# Altium footprint library 4AD_K7.PcbLib: 51 footprints (part 3 of 4)
Each footprint in its own frame and in the unit in brackets; x right, y up, seen from the top. Pads: shape width x height; smd on the part's side, far side on the other; paste and mask are expansions set on the pad; w line width, h text height; cw(c..) or ccw(c..) is an arc to the next point about the centre after c.
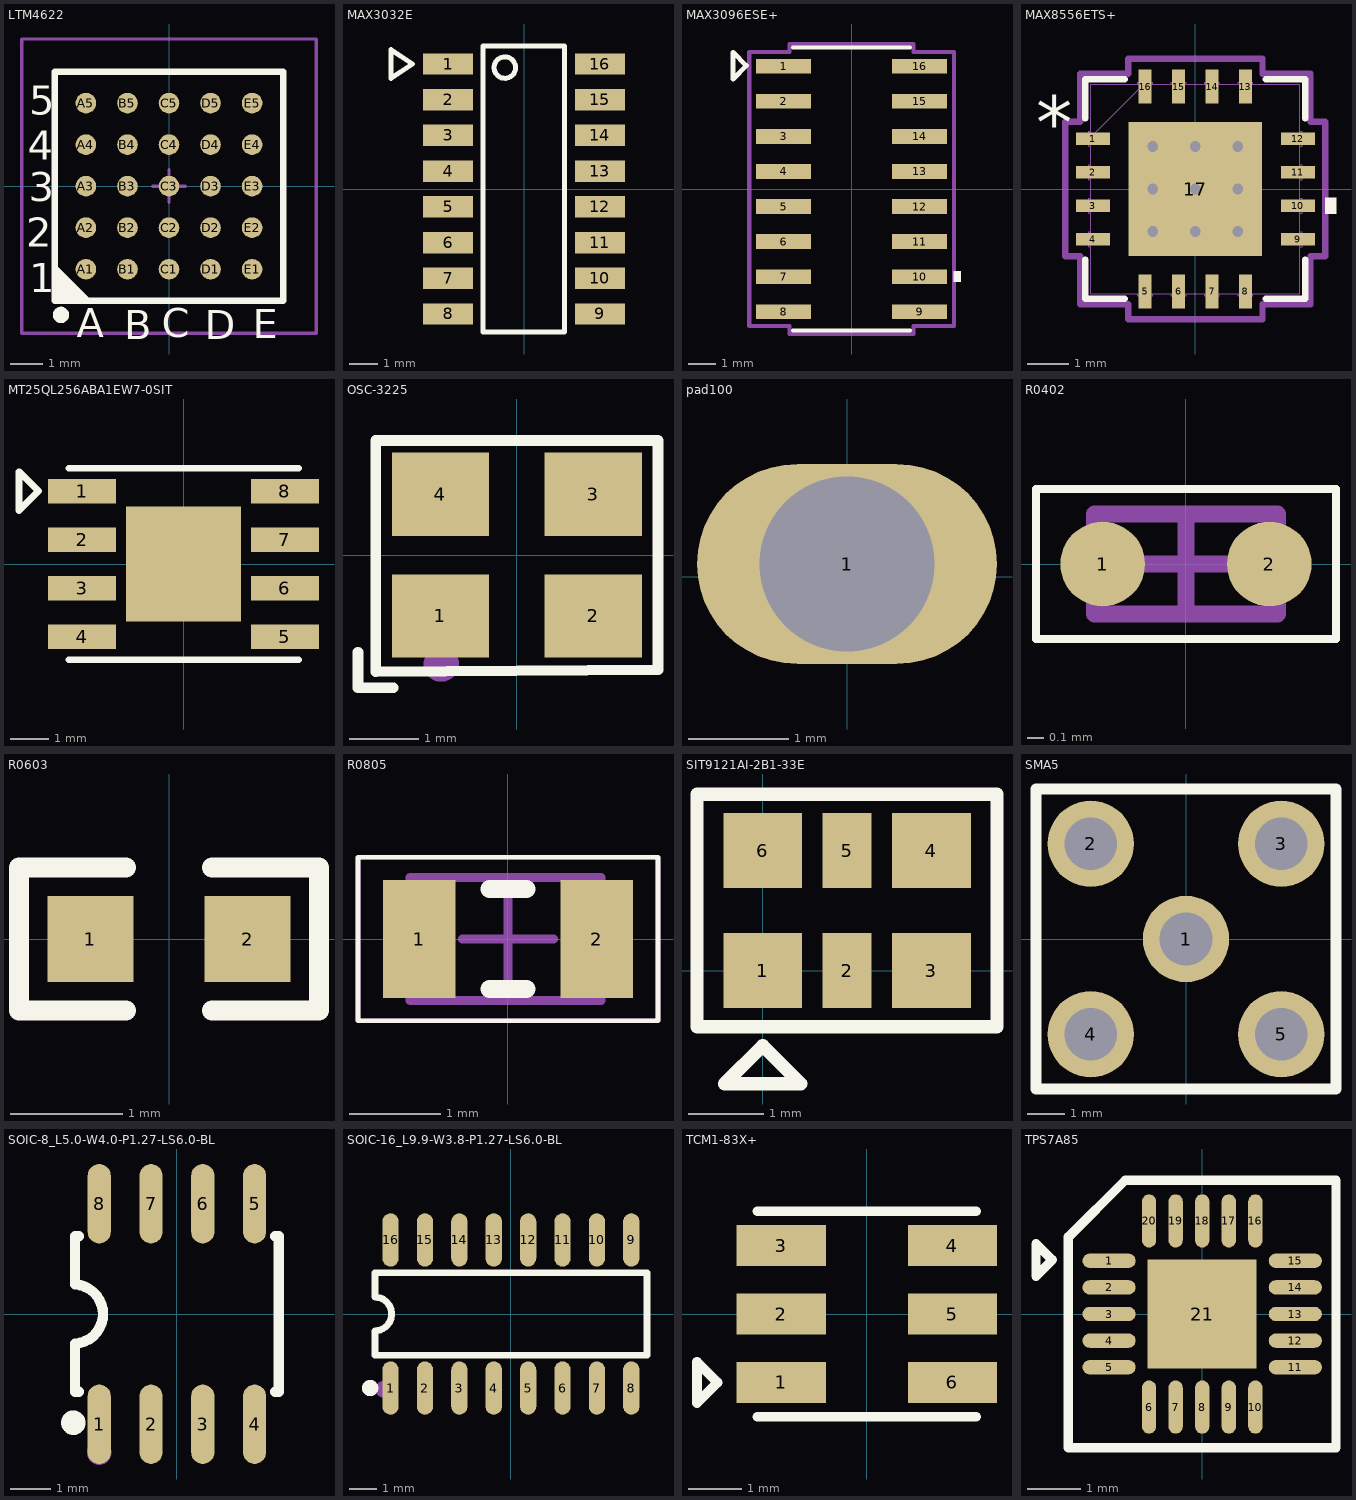
[diagram p2: the footprints below, top view; thin cyan lines are the x and y axes]

## LTM4622 [mm]
pads (25):
  round 0.63 smd: A1(-2.54,-2.54) A2(-2.54,-1.27) A3(-2.54,0) A4(-2.54,1.27) A5(-2.54,2.54) B1(-1.27,-2.54) B2(-1.27,-1.27) B3(-1.27,0) B4(-1.27,1.27) B5(-1.27,2.54) C1(0,-2.54) C2(0,-1.27) C3(0,0) C4(0,1.27) C5(0,2.54) D1(1.27,-2.54) D2(1.27,-1.27) D3(1.27,0) D4(1.27,1.27) D5(1.27,2.54) E1(2.54,-2.54) E2(2.54,-1.27) E3(2.54,0) E4(2.54,1.27) E5(2.54,2.54)
Top Overlay:
  circle w0.25: c-3.302,-3.937 r0.125
  region: -3.5,-2.5 -2.5,-3.5 -3.5,-3.5
  lines w0.2: -3.5,-2.5 -2.5,-3.5 ; -3.5,-3.5 -3.5,3.5 3.5,3.5 3.5,-3.5 -3.5,-3.5
  text "A" at -2.819,-4.623 h0.89
  text "B" at -1.372,-4.674 h0.89
  text "C" at -0.229,-4.623 h0.89
  text "D" at 1.092,-4.674 h0.89
  text "E" at 2.565,-4.648 h0.89
  text "1" at -4.267,-3.251 h0.89
  text "2" at -4.369,-1.854 h0.89
  text "3" at -4.293,-0.457 h0.89
  text "4" at -4.318,0.813 h0.89
  text "5" at -4.267,2.184 h0.89
Mechanical 13:
  lines w0.1: -3.5,-3.5 -3.5,3.5 3.5,3.5 3.5,-3.5 -3.5,-3.5
Mechanical 15:
  lines w0.1: -0.5,0 0.5,0 ; 0,-0.5 0,0.5 ; -4.5,-4.5 -4.5,4.5 4.5,4.5 4.5,-4.5 -4.5,-4.5
3D body: height 1.55, standoff 0, extent -3.5,-3.5 3.5,3.5

## MAX3032E [mil]
pads (16):
  rect 70x30 smd: 1(-106.3,175) 2(-106.3,125) 3(-106.3,75) 4(-106.3,25) 5(-106.3,-25) 6(-106.3,-75) 7(-106.3,-125) 8(-106.3,-175) 9(106.3,-175) 10(106.3,-125) 11(106.3,-75) 12(106.3,-25) 13(106.3,25) 14(106.3,75) 15(106.3,125) 16(106.3,175)
Top Overlay:
  circle w7: c-26.97,170 r15
  lines w7: -186.3,155 -186.3,195 -156.3,175 -186.3,155 ; -57.3,-200 -57.3,200 56.55,200 56.55,-200 -57.3,-200

## MAX3096ESE+ [mil]
pads (16):
  rect 78x21 smd: 1(-97,175) 2(-97,125) 3(-97,75) 4(-97,25) 5(-97,-25) 6(-97,-75) 7(-97,-125) 8(-97,-175) 9(97,-175) 10(97,-125) 11(97,-75) 12(97,-25) 13(97,25) 14(97,75) 15(97,125) 16(97,175)
Top Overlay:
  region: 146,-117.5 156,-117.5 156,-132.5 146,-132.5
  lines w6: -83.5,-202 83.5,-202 ; -83.5,202 83.5,202
  lines w7: -169,157 -169,195 -150,176 -169,157
Mechanical 15:
  lines w6: -146,-195.5 -146,195.5 -88.5,195.5 -88.5,207 88.5,207 88.5,195.5 146,195.5 146,-195.5 88.5,-195.5 88.5,-207 -88.5,-207 -88.5,-195.5 -146,-195.5

## MAX8556ETS+ [mil]
pads (17):
  rect 32x12 smd paste+0 mask+0: 1(-96.5,47.24) 2(-96.5,15.75) 3(-96.5,-15.75) 4(-96.5,-47.24) 9(96.5,-47.24) 10(96.5,-15.75) 11(96.5,15.75) 12(96.5,47.24)
  rect 12x32 smd paste+0 mask+0: 5(-47.24,-96.5) 6(-15.75,-96.5) 7(15.75,-96.5) 8(47.24,-96.5) 13(47.24,96.5) 14(15.75,96.5) 15(-15.75,96.5) 16(-47.24,96.5)
  rect 126x126 smd paste-62.5 mask+0: 17(0,0)
via 40,0 diameter 18 hole 10
via 40,-40 diameter 18 hole 10
via -40,-40 diameter 18 hole 10
via -40,40 diameter 18 hole 10
via 40,40 diameter 18 hole 10
via -40,0 diameter 18 hole 10
via 0,-40 diameter 18 hole 10
via 0,40 diameter 18 hole 10
via 0,0 diameter 18 hole 10
Top Overlay:
  region: 122.5,-8.25 132.5,-8.25 132.5,-23.25 122.5,-23.25
  lines w6: -103.5,-66.34 -103.5,-103.5 -66.34,-103.5 ; -103.5,66.34 -103.5,103.5 -66.34,103.5 ; 66.34,-103.5 103.5,-103.5 103.5,-66.34 ; 66.34,103.5 103.5,103.5 103.5,66.34
  text "*" at -150,37.99 h50
Top Paste:
  region: -3.94,59.06 -59.06,59.06 -59.06,3.94 -3.94,3.94
  region: -3.94,-3.94 -59.06,-3.94 -59.06,-59.06 -3.94,-59.06
  region: 59.06,59.06 3.94,59.06 3.94,3.94 59.06,3.94
  region: 59.06,-3.94 3.94,-3.94 3.94,-59.06 59.06,-59.06
Mechanical 13:
  lines w1: -98.5,48.5 -48.5,98.5 ; -100.5,-54.24 -100.5,-40.24 -98.5,-40.24 -98.5,-54.24 -100.5,-54.24 ; -100.5,-22.75 -100.5,-8.75 -98.5,-8.75 -98.5,-22.75 -100.5,-22.75 ; -100.5,8.75 -100.5,22.75 -98.5,22.75 -98.5,8.75 -100.5,8.75 ; -100.5,40.24 -100.5,54.24 -98.5,54.24 -98.5,40.24 -100.5,40.24 ; -98.5,-98.5 98.5,-98.5 98.5,98.5 -98.5,98.5 -98.5,-98.5 ; -54.24,-100.5 -54.24,-98.5 -40.24,-98.5 -40.24,-100.5 -54.24,-100.5 ; -54.24,98.5 -40.24,98.5 -40.24,100.5 -54.24,100.5 -54.24,98.5 ; -22.75,-100.5 -22.75,-98.5 -8.75,-98.5 -8.75,-100.5 -22.75,-100.5 ; -22.75,98.5 -8.75,98.5 -8.75,100.5 -22.75,100.5 -22.75,98.5 ; 8.75,-100.5 8.75,-98.5 22.75,-98.5 22.75,-100.5 8.75,-100.5 ; 8.75,98.5 22.75,98.5 22.75,100.5 8.75,100.5 8.75,98.5 ; 40.24,-100.5 40.24,-98.5 54.24,-98.5 54.24,-100.5 40.24,-100.5 ; 40.24,98.5 54.24,98.5 54.24,100.5 40.24,100.5 40.24,98.5 ; 98.5,-54.24 98.5,-40.24 100.5,-40.24 100.5,-54.24 98.5,-54.24 ; 98.5,-22.75 98.5,-8.75 100.5,-8.75 100.5,-22.75 98.5,-22.75 ; 98.5,8.75 98.5,22.75 100.5,22.75 100.5,8.75 98.5,8.75 ; 98.5,40.24 98.5,54.24 100.5,54.24 100.5,40.24 98.5,40.24
  text "*" at -93,37.99 h50
Mechanical 15:
  lines w6: -122.5,-63.24 -108.5,-63.24 -108.5,-108.5 -63.24,-108.5 -63.24,-122.5 63.24,-122.5 63.24,-108.5 108.5,-108.5 108.5,-63.24 122.5,-63.24 122.5,63.24 108.5,63.24 108.5,108.5 63.24,108.5 63.24,122.5 -63.24,122.5 -63.24,108.5 -108.5,108.5 -108.5,63.24 -122.5,63.24 -122.5,-63.24
3D body "21-0140_T1655+3_MXM.step": height 32.09, standoff 0, extent -100.51,-100.51 100.51,100.51

## MT25QL256ABA1EW7-0SIT [mm]
pads (9):
  rect 1.778x0.635 smd: 1(-2.65,1.905) 2(-2.65,0.635) 3(-2.65,-0.635) 4(-2.65,-1.905) 5(2.65,-1.905) 6(2.65,-0.635) 7(2.65,0.635) 8(2.65,1.905)
  rect 3x3 smd: ""(0,0)
Top Overlay:
  lines w0.178: -3,-2.5 3,-2.5 ; -3,2.5 3,2.5 ; -4.301,1.397 -4.301,2.413 -3.793,1.905 -4.301,1.397

## OSC-3225 [mm]
pads (4):
  rect 1.4x1.2 smd: 1(-1.1,-0.875) 2(1.1,-0.875) 3(1.1,0.875) 4(-1.1,0.875)
Top Overlay:
  lines w0.152: -2.286,-1.397 -2.286,-1.905 -1.778,-1.905 ; -2.029,-1.679 2.032,-1.651 2.032,0 2.032,1.651 -2.029,1.651 -2.029,-1.679
Mechanical 15:
  circle w0.254: c-1.088,-1.567 r0.127
  region: -1.738,-0.536 -1.702,-0.536 -1.702,-0.608 -1.738,-0.608
  region: -1.702,-0.536 -1.666,-0.536 -1.666,-0.608 -1.702,-0.608
  region: -1.666,-0.5 -1.63,-0.5 -1.63,-0.608 -1.666,-0.608
  region: -1.63,-0.464 -1.594,-0.464 -1.594,-0.572 -1.63,-0.572
  region: -1.594,-0.464 -1.558,-0.464 -1.558,-1.004 -1.594,-1.004
  region: -1.558,-0.428 -1.522,-0.428 -1.522,-1.004 -1.558,-1.004
  region: -1.522,-0.428 -1.486,-0.428 -1.486,-1.004 -1.522,-1.004
  region: -1.486,-0.428 -1.45,-0.428 -1.45,-1.004 -1.486,-1.004

## pad100 [mm]
pads (1):
  oval 3x2 hole 1.75: 1(0,0.127)

## R0402 [mil]
height 11.81
pads (2):
  round 20 smd: 1(-19.68,0) 2(19.68,0)
Top Overlay:
  lines w1.97: -35.43,-17.72 -35.43,17.72 35.43,17.72 35.43,-17.72 -35.43,-17.72
Mechanical 13:
  lines w3.94: -21.65,-11.81 21.65,-11.81 21.65,11.81 -21.65,11.81 -21.65,-11.81
Mechanical 15:
  lines w1.97: -35.43,-17.72 -35.43,17.72 35.43,17.72 35.43,-17.72 -35.43,-17.72
  lines w3.94: -9.84,0 9.84,0 ; 0,-9.84 0,9.84
3D body "R0402.STEP": height 13.78, standoff 0, extent -19.68,-9.84 19.69,9.85

## R0603 [mil]
pads (2):
  rect 30x30 smd: 1(-27.5,0) 2(27.5,0)
Top Overlay:
  lines w7: -15,-25 -52.5,-25 -52.5,25 -15,25 ; 15,-25 52.5,-25 52.5,25 15,25

## R0805 [mm]
height 0.5
pads (2):
  rect 0.8x1.3 smd: 1(-0.975,0) 2(0.975,0)
Top Overlay:
  lines w0.05: -1.65,-0.9 1.65,-0.9 1.65,0.9 -1.65,0.9 -1.65,-0.9
  lines w0.2: -0.2,-0.55 0.2,-0.55 ; -0.2,0.55 0.2,0.55
Mechanical 13:
  lines w0.1: -1.075,-0.675 -1.075,0.675 1.025,0.675 1.025,-0.675 -1.075,-0.675
Mechanical 15:
  lines w0.05: -1.65,-0.9 1.65,-0.9 1.65,0.9 -1.65,0.9 -1.65,-0.9
  lines w0.1: -0.5,0 0.5,0 ; 0,-0.5 0,0.5
3D body "R0805.STEP": height 0.55, standoff 0, extent -1.025,-0.63 0.975,0.63

## SIT9121AI-2B1-33E [mm]
pads (6):
  rect 1.05x1 smd: 1(0,0) 3(2.25,0) 4(2.25,1.6) 6(0,1.6)
  rect 0.65x1 smd: 2(1.125,0) 5(1.125,1.6)
Top Overlay:
  lines w0.178: -0.875,-0.75 -0.875,2.35 3.125,2.35 3.125,-0.75 -0.875,-0.75 ; -0.508,-1.508 0,-1 0.508,-1.508 -0.508,-1.508

## SMA5 [mm]
pads (5):
  round 2.3 hole 1.4: 1(0,0) 2(-2.54,2.54) 3(2.54,2.54) 4(-2.54,-2.54) 5(2.54,-2.54)
Top Overlay:
  lines w0.305: -4,-4 4,-4 4,4 -4,4 -4,-4

## SOIC-8_L5.0-W4.0-P1.27-LS6.0-BL [mil]
pads (8):
  oval 22.38x76.78 smd: 1(-75,-106.5) 2(-25,-106.5) 3(25,-106.5) 4(75,-106.5) 5(75,106.5) 6(25,106.5) 7(-25,106.5) 8(-75,106.5)
Top Overlay:
  circle w11.81: c-100,-105 r5.91
  lines w10: -98.43,-28.61 ccw(c-99.99,0) -98.23,28.59 ; -98.42,-28.61 -98.42,-59.05 -98.42,-75 -94.83,-75 ; -98.42,28.59 -98.42,59.05 -98.42,75 -94.83,75 ; 94.83,-75 98.42,-75 98.42,-59.05 98.42,59.05 98.42,75 94.83,75
Mechanical 15:
  circle w11.81: c-75,-133.86 r5.91

## SOIC-16_L9.9-W3.8-P1.27-LS6.0-BL [mm]
pads (16):
  oval 0.602x1.971 smd: 1(-4.445,-2.736) 2(-3.175,-2.736) 3(-1.905,-2.736) 4(-0.635,-2.736) 5(0.635,-2.736) 6(1.905,-2.736) 7(3.175,-2.736) 8(4.445,-2.736) 9(4.445,2.736) 10(3.175,2.736) 11(1.905,2.736) 12(0.635,2.736) 13(-0.635,2.736) 14(-1.905,2.736) 15(-3.175,2.736) 16(-4.445,2.736)
Top Overlay:
  circle w0.3: c-5.198,-2.736 r0.15
  lines w0.254: -5.026,0.621 -5.026,1.521 5.026,1.521 5.026,-1.521 -5.026,-1.521 -5.026,-0.621 ccw(c-5.026,0.001) -5.026,0.623
Mechanical 15:
  circle w0.3: c-4.71,-2.78 r0.15

## TCM1-83X+ [mil]
pads (6):
  rect 65x30 smd: 1(-62.5,-50) 2(-62.5,0) 3(-62.5,50) 4(62.5,50) 5(62.5,0) 6(62.5,-50)
Top Overlay:
  lines w7: -80,-75 80,-75 ; -80,75 80,75 ; -124,-65 -109,-50 -124,-35 -124,-65

## TPS7A85 [mm]
pads (21):
  oval 1x0.27 smd: 1(-1.75,1) 2(-1.75,0.5) 3(-1.75,0) 4(-1.75,-0.5) 5(-1.75,-1) 11(1.75,-1) 12(1.75,-0.5) 13(1.75,0) 14(1.75,0.5) 15(1.75,1)
  oval 0.27x1 smd: 6(-1,-1.75) 7(-0.5,-1.75) 8(0,-1.75) 9(0.5,-1.75) 10(1,-1.75) 16(1,1.75) 17(0.5,1.75) 18(0,1.75) 19(-0.5,1.75) 20(-1,1.75)
  rect 2.05x2.05 smd: 21(0,0)
Top Overlay:
  lines w0.178: -3.124,0.711 -3.124,1.321 -2.819,1.016 -3.124,0.711 ; -2.515,-2.515 -2.515,1.448 -1.448,2.515 2.515,2.515 2.515,-2.515 -2.515,-2.515